# EAGLE library part RV-8803-C7-32.768K-3PPM-TA-QA (library GNSS)
Real Time Clock RTC 32.768 kHz +/-3 PPM I2C -40/+85C Source: Datasheet <https://www.mouser.sg/datasheet/2/530/RV-8803-C7-1023018.pdf>
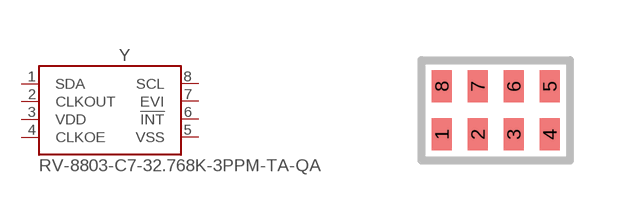
[diagram p1: symbol with the pads of RV-8803-C7; footprint RV-8803-C7]

Designator prefix Y

## RV-8803-C7-32.768K-3PPM-TA-QA (DESCRIPTION: Real Time Clock 32.768 kHz +/-3 PPM I2C -40/+85C; HEIGHT: mm; MANUFACTURER_NAME: MICRO CRYSTAL; MANUFACTURER_PART_NUMBER: RV-8803-C7-32.768k-3PPM-TA-QA; MOUSER_PART_NUMBER: 428-203035-MG01; MOUSER_PRICE-STOCK: https://www.mouser.co.uk/ProductDetail/Micro-Crystal/RV-8803-C7-32768k-3PPM-TA-QA?qs=7bTaA%2FLYtSb5zZOilbtzxw%3D%3D)  [RV-8803-C7]
1  SDA
2  CLKOUT
3  VDD
4  CLKOE
5  VSS
6  !INT
7  EVI
8  SCL

## Footprint RV-8803-C7 (pad centres in mm)
RV-8803-C7
smd 0.5 x 0.8: 1 -1.35,-0.6; 2 -0.45,-0.6; 3 0.45,-0.6; 4 1.35,-0.6; 5 1.35,0.6; 6 0.45,0.6; 7 -0.45,0.6; 8 -1.35,0.6